# Altium footprint library CONN_TBLOCK_5P08.PcbLib: 72 footprints (part 3 of 5)
Each footprint in its own frame and in the unit in brackets; x right, y up, seen from the top. Pads: shape width x height; smd on the part's side, far side on the other; paste and mask are expansions set on the pad; w line width, h text height; cw(c..) or ccw(c..) is an arc to the next point about the centre after c.
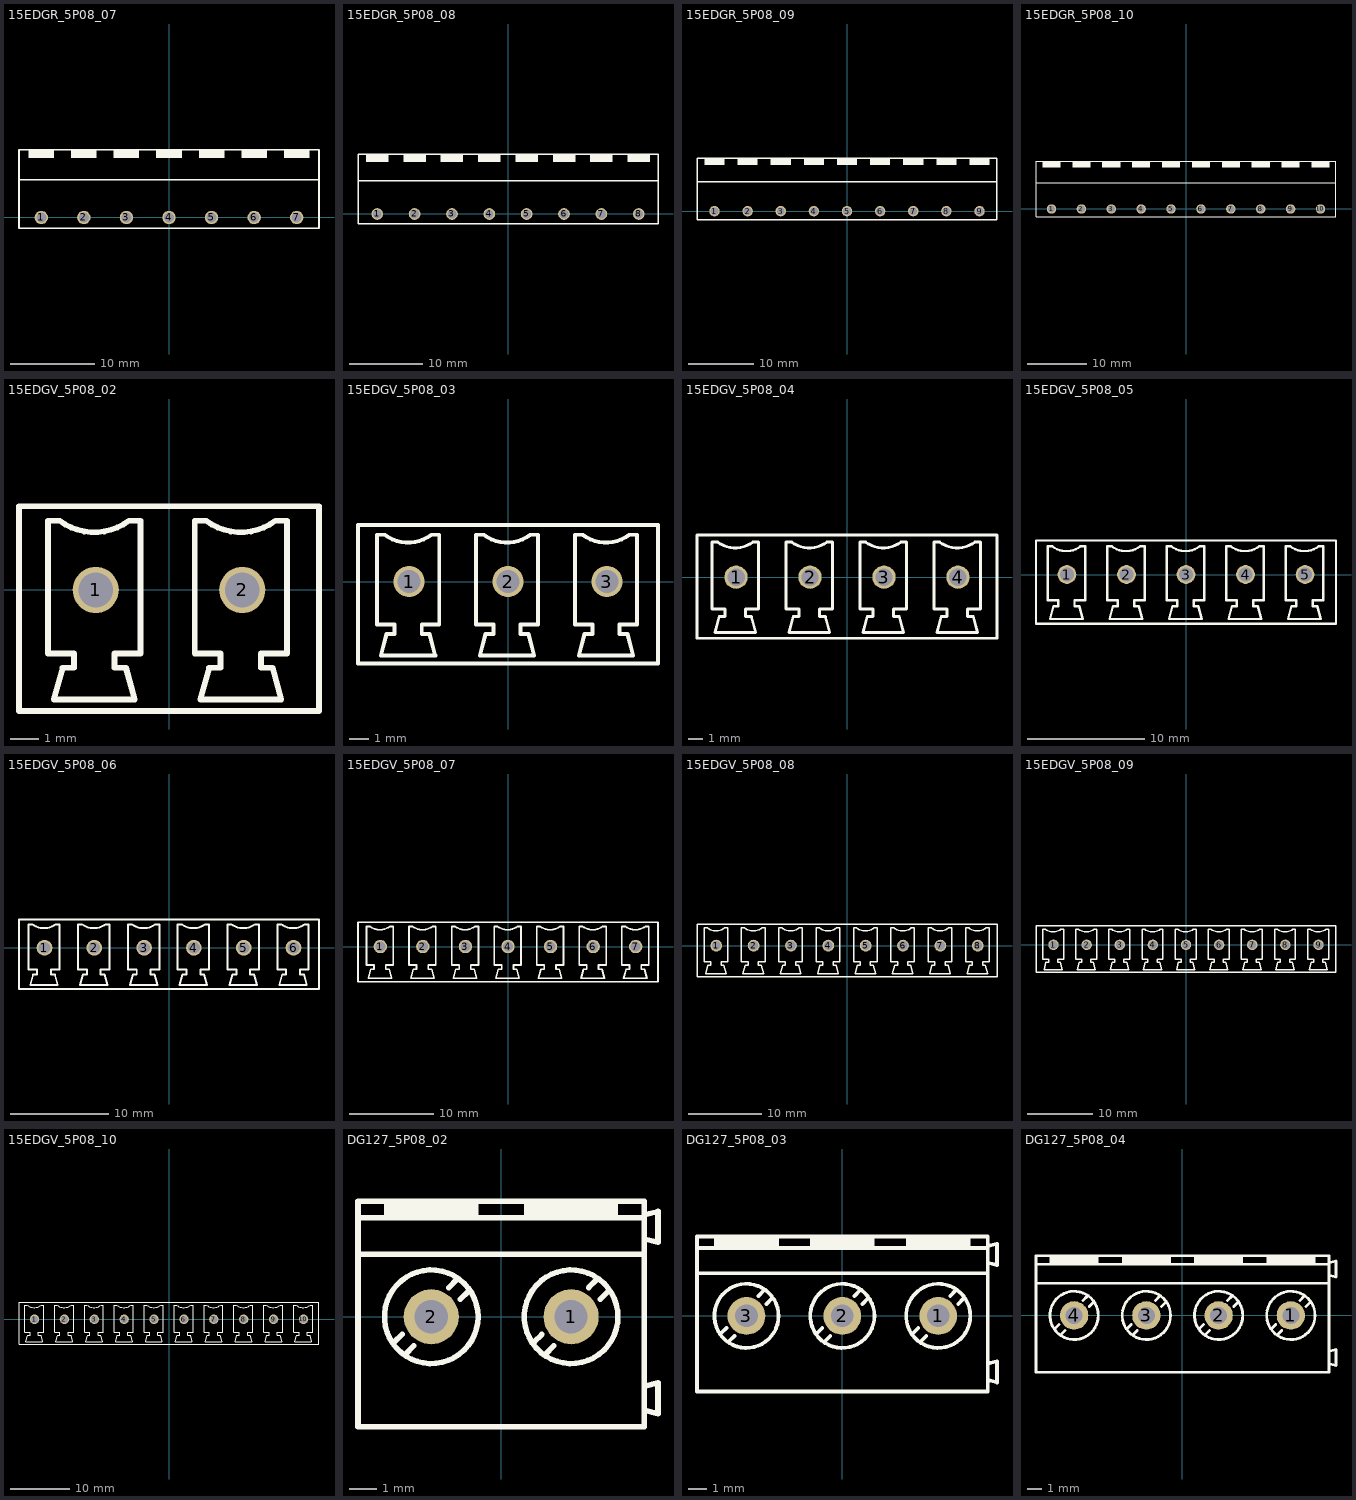
[diagram p2: the footprints below, top view; thin cyan lines are the x and y axes]

## 15EDGR_5P08_07 [mm] "Terminal Plug, pitch 5.08mm, PHOENIX MC 1,5/ x-G-5,08"
pads (7):
  round 1.6 / inner round 1.6 / far side oval 2x3 hole 1.2: 1(-15.24,0) 2(-10.16,0) 3(-5.08,0) 4(0,0) 5(5.08,0) 6(10.16,0) 7(15.24,0)
Top Overlay:
  region: -16.74,8.1 -16.74,7.1 -13.74,7.1 -13.74,8.1
  region: -11.66,8.1 -11.66,7.1 -8.66,7.1 -8.66,8.1
  region: -6.58,8.1 -6.58,7.1 -3.58,7.1 -3.58,8.1
  region: -1.5,8.1 -1.5,7.1 1.5,7.1 1.5,8.1
  region: 3.58,8.1 3.58,7.1 6.58,7.1 6.58,8.1
  region: 8.66,8.1 8.66,7.1 11.66,7.1 11.66,8.1
  region: 13.74,8.1 13.74,7.1 16.74,7.1 16.74,8.1
  lines w0.2: -17.9,4.5 17.9,4.5 ; -17.9,-1.3 -17.9,8.1 17.9,8.1 17.9,-1.3 -17.9,-1.3
3D body "MC-1-5-2-G-5-08.stp": height 7.25, standoff -3.4, extent -17.78,-1.2 -7.62,8
3D body "MC-1-5-3-G-5-08.stp": height 7.25, standoff -3.4, extent -7.62,-1.2 7.62,8
3D body "MC-1-5-2-G-5-08.stp": height 7.25, standoff -3.4, extent 7.62,-1.2 17.78,8

## 15EDGR_5P08_08 [mm] "Terminal Plug, pitch 5.08mm, PHOENIX MC 1,5/ x-G-5,08"
pads (8):
  round 1.6 / inner round 1.6 / far side oval 2x3 hole 1.2: 1(-17.78,0) 2(-12.7,0) 3(-7.62,0) 4(-2.54,0) 5(2.54,0) 6(7.62,0) 7(12.7,0) 8(17.78,0)
Top Overlay:
  region: 16.28,8.1 16.28,7.1 19.28,7.1 19.28,8.1
  region: 11.2,8.1 11.2,7.1 14.2,7.1 14.2,8.1
  region: 6.12,8.1 6.12,7.1 9.12,7.1 9.12,8.1
  region: 1.04,8.1 1.04,7.1 4.04,7.1 4.04,8.1
  region: -4.04,8.1 -4.04,7.1 -1.04,7.1 -1.04,8.1
  region: -9.12,8.1 -9.12,7.1 -6.12,7.1 -6.12,8.1
  region: -14.2,8.1 -14.2,7.1 -11.2,7.1 -11.2,8.1
  region: -19.28,8.1 -19.28,7.1 -16.28,7.1 -16.28,8.1
  lines w0.2: -20.4,4.5 20.4,4.5 ; -20.4,-1.3 20.4,-1.3 20.4,8.1 -20.4,8.1 -20.4,-1.3
3D body "MC-1-5-3-G-5-08.stp": height 7.25, standoff -3.4, extent 5.08,-1.2 20.32,8
3D body "MC-1-5-3-G-5-08.stp": height 7.25, standoff -3.4, extent -10.16,-1.2 5.08,8
3D body "MC-1-5-2-G-5-08.stp": height 7.25, standoff -3.4, extent -20.32,-1.2 -10.16,8

## 15EDGR_5P08_09 [mm] "Terminal Plug, pitch 5.08mm, PHOENIX MC 1,5/ x-G-5,08"
pads (9):
  round 1.6 / inner round 1.6 / far side oval 2x3 hole 1.2: 1(-20.32,0) 2(-15.24,0) 3(-10.16,0) 4(-5.08,0) 5(0,0) 6(5.08,0) 7(10.16,0) 8(15.24,0) 9(20.32,0)
Top Overlay:
  region: -21.82,8.1 -21.82,7.1 -18.82,7.1 -18.82,8.1
  region: -16.74,8.1 -16.74,7.1 -13.74,7.1 -13.74,8.1
  region: -11.66,8.1 -11.66,7.1 -8.66,7.1 -8.66,8.1
  region: -6.58,8.1 -6.58,7.1 -3.58,7.1 -3.58,8.1
  region: -1.5,8.1 -1.5,7.1 1.5,7.1 1.5,8.1
  region: 3.58,8.1 3.58,7.1 6.58,7.1 6.58,8.1
  region: 8.66,8.1 8.66,7.1 11.66,7.1 11.66,8.1
  region: 13.74,8.1 13.74,7.1 16.74,7.1 16.74,8.1
  region: 18.82,8.1 18.82,7.1 21.82,7.1 21.82,8.1
  lines w0.2: -23,4.5 23,4.5 ; -23,-1.3 -23,8.1 23,8.1 23,-1.3 -23,-1.3
3D body "MC-1-5-3-G-5-08.stp": height 7.25, standoff -3.4, extent -22.86,-1.2 -7.62,8
3D body "MC-1-5-3-G-5-08.stp": height 7.25, standoff -3.4, extent -7.62,-1.2 7.62,8
3D body "MC-1-5-3-G-5-08.stp": height 7.25, standoff -3.4, extent 7.62,-1.2 22.86,8

## 15EDGR_5P08_10 [mm] "Terminal Plug, pitch 5.08mm, PHOENIX MC 1,5/ x-G-5,08"
pads (10):
  round 1.6 / inner round 1.6 / far side oval 2x3 hole 1.2: 1(-22.86,0) 2(-17.78,0) 3(-12.7,0) 4(-7.62,0) 5(-2.54,0) 6(2.54,0) 7(7.62,0) 8(12.7,0) 9(17.78,0) 10(22.86,0)
Top Overlay:
  region: 21.36,8.1 21.36,7.1 24.36,7.1 24.36,8.1
  region: 16.28,8.1 16.28,7.1 19.28,7.1 19.28,8.1
  region: 11.2,8.1 11.2,7.1 14.2,7.1 14.2,8.1
  region: 6.12,8.1 6.12,7.1 9.12,7.1 9.12,8.1
  region: 1.04,8.1 1.04,7.1 4.04,7.1 4.04,8.1
  region: -4.04,8.1 -4.04,7.1 -1.04,7.1 -1.04,8.1
  region: -9.12,8.1 -9.12,7.1 -6.12,7.1 -6.12,8.1
  region: -14.2,8.1 -14.2,7.1 -11.2,7.1 -11.2,8.1
  region: -19.28,8.1 -19.28,7.1 -16.28,7.1 -16.28,8.1
  region: -24.36,8.1 -24.36,7.1 -21.36,7.1 -21.36,8.1
  lines w0.2: -25.5,4.5 25.5,4.5 ; -25.5,-1.3 25.5,-1.3 25.5,8.1 -25.5,8.1 -25.5,-1.3
3D body "MC-1-5-3-G-5-08.stp": height 7.25, standoff -3.4, extent 10.16,-1.2 25.4,8
3D body "MC-1-5-2-G-5-08.stp": height 7.25, standoff -3.4, extent 0,-1.2 10.16,8
3D body "MC-1-5-3-G-5-08.stp": height 7.25, standoff -3.4, extent -15.24,-1.2 0,8
3D body "MC-1-5-2-G-5-08.stp": height 7.25, standoff -3.4, extent -25.4,-1.2 -15.24,8

## 15EDGV_5P08_02 [mm] "Terminal Plug, pitch 5.08mm, PHOENIX MCV 1,5/ x-G-5,08"
pads (2):
  round 1.6 / inner round 1.6 / far side oval 2x3 hole 1.2: 1(-2.54,0) 2(2.54,0)
Top Overlay:
  lines w0.2: -3.79,2.4 ccw(c-2.59,4) -1.39,2.4 -0.99,2.4 -0.99,-2.2 -1.89,-2.2 -1.89,-2.7 -1.49,-2.7 -1.19,-3.8 -3.99,-3.8 -3.69,-2.7 -3.29,-2.7 -3.29,-2.2 -4.19,-2.2 -4.19,2.4 -3.79,2.4 ; -3.79,2.4 -3.79,2.4 ; 1.29,2.4 ccw(c2.49,4) 3.69,2.4 4.09,2.4 4.09,-2.2 3.19,-2.2 3.19,-2.7 3.59,-2.7 3.89,-3.8 1.09,-3.8 1.39,-2.7 1.79,-2.7 1.79,-2.2 0.89,-2.2 0.89,2.4 1.29,2.4 ; 1.29,2.4 1.29,2.4 ; -5.2,-4.2 -5.2,2.9 5.2,2.9 5.2,-4.2 -5.2,-4.2
3D body "MCV-1-5-2-G-5-08.stp": height 9.2, standoff -3.4, extent -5.06,-4.35 5.1,2.9

## 15EDGV_5P08_03 [mm] "Terminal Plug, pitch 5.08mm, PHOENIX MCV 1,5/ x-G-5,08"
pads (3):
  round 1.6 / inner round 1.6 / far side oval 2x3 hole 1.2: 1(-5.08,0) 2(0,0) 3(5.08,0)
Top Overlay:
  lines w0.2: -6.33,2.4 ccw(c-5.13,4) -3.93,2.4 -3.53,2.4 -3.53,-2.2 -4.43,-2.2 -4.43,-2.7 -4.03,-2.7 -3.73,-3.8 -6.53,-3.8 -6.23,-2.7 -5.83,-2.7 -5.83,-2.2 -6.73,-2.2 -6.73,2.4 -6.33,2.4 ; -6.33,2.4 -6.33,2.4 ; -1.25,2.4 ccw(c-0.05,4) 1.15,2.4 1.55,2.4 1.55,-2.2 0.65,-2.2 0.65,-2.7 1.05,-2.7 1.35,-3.8 -1.45,-3.8 -1.15,-2.7 -0.75,-2.7 -0.75,-2.2 -1.65,-2.2 -1.65,2.4 -1.25,2.4 ; -1.25,2.4 -1.25,2.4 ; 3.83,2.4 ccw(c5.03,4) 6.23,2.4 6.63,2.4 6.63,-2.2 5.73,-2.2 5.73,-2.7 6.13,-2.7 6.43,-3.8 3.63,-3.8 3.93,-2.7 4.33,-2.7 4.33,-2.2 3.43,-2.2 3.43,2.4 3.83,2.4 ; 3.83,2.4 3.83,2.4 ; -7.7,-4.2 7.7,-4.2 7.7,2.9 -7.7,2.9 -7.7,-4.2
3D body "MCV-1-5-3-G-5-08.stp": height 9.2, standoff -3.4, extent -7.6,-4.35 7.64,2.9

## 15EDGV_5P08_04 [mm] "Terminal Plug, pitch 5.08mm, PHOENIX MCV 1,5/ x-G-5,08"
pads (4):
  round 1.6 / inner round 1.6 / far side oval 2x3 hole 1.2: 1(-7.62,0) 2(-2.54,0) 3(2.54,0) 4(7.62,0)
Top Overlay:
  lines w0.2: -8.87,2.4 ccw(c-7.67,4) -6.47,2.4 -6.07,2.4 -6.07,-2.2 -6.97,-2.2 -6.97,-2.7 -6.57,-2.7 -6.27,-3.8 -9.07,-3.8 -8.77,-2.7 -8.37,-2.7 -8.37,-2.2 -9.27,-2.2 -9.27,2.4 -8.87,2.4 ; -8.87,2.4 -8.87,2.4 ; -3.79,2.4 ccw(c-2.59,4) -1.39,2.4 -0.99,2.4 -0.99,-2.2 -1.89,-2.2 -1.89,-2.7 -1.49,-2.7 -1.19,-3.8 -3.99,-3.8 -3.69,-2.7 -3.29,-2.7 -3.29,-2.2 -4.19,-2.2 -4.19,2.4 -3.79,2.4 ; -3.79,2.4 -3.79,2.4 ; 1.29,2.4 ccw(c2.49,4) 3.69,2.4 4.09,2.4 4.09,-2.2 3.19,-2.2 3.19,-2.7 3.59,-2.7 3.89,-3.8 1.09,-3.8 1.39,-2.7 1.79,-2.7 1.79,-2.2 0.89,-2.2 0.89,2.4 1.29,2.4 ; 1.29,2.4 1.29,2.4 ; 6.37,2.4 ccw(c7.57,4) 8.77,2.4 9.17,2.4 9.17,-2.2 8.27,-2.2 8.27,-2.7 8.67,-2.7 8.97,-3.8 6.17,-3.8 6.47,-2.7 6.87,-2.7 6.87,-2.2 5.97,-2.2 5.97,2.4 6.37,2.4 ; 6.37,2.4 6.37,2.4 ; -10.3,-4.2 -10.3,2.9 10.3,2.9 10.3,-4.2 -10.3,-4.2
3D body "MCV-1-5-2-G-5-08.stp": height 9.2, standoff -3.4, extent 0.02,-4.35 10.18,2.9
3D body "MCV-1-5-2-G-5-08.stp": height 9.2, standoff -3.4, extent -10.14,-4.35 0.02,2.9

## 15EDGV_5P08_05 [mm] "Terminal Plug, pitch 5.08mm, PHOENIX MCV 1,5/ x-G-5,08"
pads (5):
  round 1.6 / inner round 1.6 / far side oval 2x3 hole 1.2: 1(-10.16,0) 2(-5.08,0) 3(0,0) 4(5.08,0) 5(10.16,0)
Top Overlay:
  lines w0.2: -11.41,2.4 ccw(c-10.21,4) -9.01,2.4 -8.61,2.4 -8.61,-2.2 -9.51,-2.2 -9.51,-2.7 -9.11,-2.7 -8.81,-3.8 -11.61,-3.8 -11.31,-2.7 -10.91,-2.7 -10.91,-2.2 -11.81,-2.2 -11.81,2.4 -11.41,2.4 ; -11.41,2.4 -11.41,2.4 ; -6.33,2.4 ccw(c-5.13,4) -3.93,2.4 -3.53,2.4 -3.53,-2.2 -4.43,-2.2 -4.43,-2.7 -4.03,-2.7 -3.73,-3.8 -6.53,-3.8 -6.23,-2.7 -5.83,-2.7 -5.83,-2.2 -6.73,-2.2 -6.73,2.4 -6.33,2.4 ; -6.33,2.4 -6.33,2.4 ; -1.25,2.4 ccw(c-0.05,4) 1.15,2.4 1.55,2.4 1.55,-2.2 0.65,-2.2 0.65,-2.7 1.05,-2.7 1.35,-3.8 -1.45,-3.8 -1.15,-2.7 -0.75,-2.7 -0.75,-2.2 -1.65,-2.2 -1.65,2.4 -1.25,2.4 ; -1.25,2.4 -1.25,2.4 ; 3.83,2.4 ccw(c5.03,4) 6.23,2.4 6.63,2.4 6.63,-2.2 5.73,-2.2 5.73,-2.7 6.13,-2.7 6.43,-3.8 3.63,-3.8 3.93,-2.7 4.33,-2.7 4.33,-2.2 3.43,-2.2 3.43,2.4 3.83,2.4 ; 3.83,2.4 3.83,2.4 ; 8.91,2.4 ccw(c10.11,4) 11.31,2.4 11.71,2.4 11.71,-2.2 10.81,-2.2 10.81,-2.7 11.21,-2.7 11.51,-3.8 8.71,-3.8 9.01,-2.7 9.41,-2.7 9.41,-2.2 8.51,-2.2 8.51,2.4 8.91,2.4 ; 8.91,2.4 8.91,2.4 ; -12.8,-4.2 12.8,-4.2 12.8,2.9 -12.8,2.9 -12.8,-4.2
3D body "MCV-1-5-2-G-5-08.stp": height 9.2, standoff -3.4, extent -12.68,-4.35 -2.52,2.9
3D body "MCV-1-5-3-G-5-08.stp": height 9.2, standoff -3.4, extent -2.52,-4.35 12.72,2.9

## 15EDGV_5P08_06 [mm] "Terminal Plug, pitch 5.08mm, PHOENIX MCV 1,5/ x-G-5,08"
pads (6):
  round 1.6 / inner round 1.6 / far side oval 2x3 hole 1.2: 1(-12.7,0) 2(-7.62,0) 3(-2.54,0) 4(2.54,0) 5(7.62,0) 6(12.7,0)
Top Overlay:
  lines w0.2: -13.95,2.4 ccw(c-12.75,4) -11.55,2.4 -11.15,2.4 -11.15,-2.2 -12.05,-2.2 -12.05,-2.7 -11.65,-2.7 -11.35,-3.8 -14.15,-3.8 -13.85,-2.7 -13.45,-2.7 -13.45,-2.2 -14.35,-2.2 -14.35,2.4 -13.95,2.4 ; -13.95,2.4 -13.95,2.4 ; -8.87,2.4 ccw(c-7.67,4) -6.47,2.4 -6.07,2.4 -6.07,-2.2 -6.97,-2.2 -6.97,-2.7 -6.57,-2.7 -6.27,-3.8 -9.07,-3.8 -8.77,-2.7 -8.37,-2.7 -8.37,-2.2 -9.27,-2.2 -9.27,2.4 -8.87,2.4 ; -8.87,2.4 -8.87,2.4 ; -3.79,2.4 ccw(c-2.59,4) -1.39,2.4 -0.99,2.4 -0.99,-2.2 -1.89,-2.2 -1.89,-2.7 -1.49,-2.7 -1.19,-3.8 -3.99,-3.8 -3.69,-2.7 -3.29,-2.7 -3.29,-2.2 -4.19,-2.2 -4.19,2.4 -3.79,2.4 ; -3.79,2.4 -3.79,2.4 ; 1.29,2.4 ccw(c2.49,4) 3.69,2.4 4.09,2.4 4.09,-2.2 3.19,-2.2 3.19,-2.7 3.59,-2.7 3.89,-3.8 1.09,-3.8 1.39,-2.7 1.79,-2.7 1.79,-2.2 0.89,-2.2 0.89,2.4 1.29,2.4 ; 1.29,2.4 1.29,2.4 ; 6.37,2.4 ccw(c7.57,4) 8.77,2.4 9.17,2.4 9.17,-2.2 8.27,-2.2 8.27,-2.7 8.67,-2.7 8.97,-3.8 6.17,-3.8 6.47,-2.7 6.87,-2.7 6.87,-2.2 5.97,-2.2 5.97,2.4 6.37,2.4 ; 6.37,2.4 6.37,2.4 ; 11.45,2.4 ccw(c12.65,4) 13.85,2.4 14.25,2.4 14.25,-2.2 13.35,-2.2 13.35,-2.7 13.75,-2.7 14.05,-3.8 11.25,-3.8 11.55,-2.7 11.95,-2.7 11.95,-2.2 11.05,-2.2 11.05,2.4 11.45,2.4 ; 11.45,2.4 11.45,2.4 ; -15.3,-4.2 15.3,-4.2 15.3,2.9 -15.3,2.9 -15.3,-4.2
3D body "MCV-1-5-3-G-5-08.stp": height 9.2, standoff -3.4, extent -15.22,-4.35 0.02,2.9
3D body "MCV-1-5-3-G-5-08.stp": height 9.2, standoff -3.4, extent 0.02,-4.35 15.26,2.9

## 15EDGV_5P08_07 [mm] "Terminal Plug, pitch 5.08mm, PHOENIX MCV 1,5/ x-G-5,08"
pads (7):
  round 1.6 / inner round 1.6 / far side oval 2x3 hole 1.2: 1(-15.24,0) 2(-10.16,0) 3(-5.08,0) 4(0,0) 5(5.08,0) 6(10.16,0) 7(15.24,0)
Top Overlay:
  lines w0.2: -16.49,2.4 ccw(c-15.29,4) -14.09,2.4 -13.69,2.4 -13.69,-2.2 -14.59,-2.2 -14.59,-2.7 -14.19,-2.7 -13.89,-3.8 -16.69,-3.8 -16.39,-2.7 -15.99,-2.7 -15.99,-2.2 -16.89,-2.2 -16.89,2.4 -16.49,2.4 ; -16.49,2.4 -16.49,2.4 ; -11.41,2.4 ccw(c-10.21,4) -9.01,2.4 -8.61,2.4 -8.61,-2.2 -9.51,-2.2 -9.51,-2.7 -9.11,-2.7 -8.81,-3.8 -11.61,-3.8 -11.31,-2.7 -10.91,-2.7 -10.91,-2.2 -11.81,-2.2 -11.81,2.4 -11.41,2.4 ; -11.41,2.4 -11.41,2.4 ; -6.33,2.4 ccw(c-5.13,4) -3.93,2.4 -3.53,2.4 -3.53,-2.2 -4.43,-2.2 -4.43,-2.7 -4.03,-2.7 -3.73,-3.8 -6.53,-3.8 -6.23,-2.7 -5.83,-2.7 -5.83,-2.2 -6.73,-2.2 -6.73,2.4 -6.33,2.4 ; -6.33,2.4 -6.33,2.4 ; -1.25,2.4 ccw(c-0.05,4) 1.15,2.4 1.55,2.4 1.55,-2.2 0.65,-2.2 0.65,-2.7 1.05,-2.7 1.35,-3.8 -1.45,-3.8 -1.15,-2.7 -0.75,-2.7 -0.75,-2.2 -1.65,-2.2 -1.65,2.4 -1.25,2.4 ; -1.25,2.4 -1.25,2.4 ; 3.83,2.4 ccw(c5.03,4) 6.23,2.4 6.63,2.4 6.63,-2.2 5.73,-2.2 5.73,-2.7 6.13,-2.7 6.43,-3.8 3.63,-3.8 3.93,-2.7 4.33,-2.7 4.33,-2.2 3.43,-2.2 3.43,2.4 3.83,2.4 ; 3.83,2.4 3.83,2.4 ; 8.91,2.4 ccw(c10.11,4) 11.31,2.4 11.71,2.4 11.71,-2.2 10.81,-2.2 10.81,-2.7 11.21,-2.7 11.51,-3.8 8.71,-3.8 9.01,-2.7 9.41,-2.7 9.41,-2.2 8.51,-2.2 8.51,2.4 8.91,2.4 ; 8.91,2.4 8.91,2.4 ; 13.99,2.4 ccw(c15.19,4) 16.39,2.4 16.79,2.4 16.79,-2.2 15.89,-2.2 15.89,-2.7 16.29,-2.7 16.59,-3.8 13.79,-3.8 14.09,-2.7 14.49,-2.7 14.49,-2.2 13.59,-2.2 13.59,2.4 13.99,2.4 ; 13.99,2.4 13.99,2.4 ; -17.9,-4.2 -17.9,2.9 17.9,2.9 17.9,-4.2 -17.9,-4.2
3D body "MCV-1-5-2-G-5-08.stp": height 9.2, standoff -3.4, extent 7.64,-4.35 17.8,2.9
3D body "MCV-1-5-3-G-5-08.stp": height 9.2, standoff -3.4, extent -7.6,-4.35 7.64,2.9
3D body "MCV-1-5-2-G-5-08.stp": height 9.2, standoff -3.4, extent -17.76,-4.35 -7.6,2.9

## 15EDGV_5P08_08 [mm] "Terminal Plug, pitch 5.08mm, PHOENIX MCV 1,5/ x-G-5,08"
pads (8):
  round 1.6 / inner round 1.6 / far side oval 2x3 hole 1.2: 1(-17.78,0) 2(-12.7,0) 3(-7.62,0) 4(-2.54,0) 5(2.54,0) 6(7.62,0) 7(12.7,0) 8(17.78,0)
Top Overlay:
  lines w0.2: -19.03,2.4 ccw(c-17.83,4) -16.63,2.4 -16.23,2.4 -16.23,-2.2 -17.13,-2.2 -17.13,-2.7 -16.73,-2.7 -16.43,-3.8 -19.23,-3.8 -18.93,-2.7 -18.53,-2.7 -18.53,-2.2 -19.43,-2.2 -19.43,2.4 -19.03,2.4 ; -19.03,2.4 -19.03,2.4 ; -13.95,2.4 ccw(c-12.75,4) -11.55,2.4 -11.15,2.4 -11.15,-2.2 -12.05,-2.2 -12.05,-2.7 -11.65,-2.7 -11.35,-3.8 -14.15,-3.8 -13.85,-2.7 -13.45,-2.7 -13.45,-2.2 -14.35,-2.2 -14.35,2.4 -13.95,2.4 ; -13.95,2.4 -13.95,2.4 ; -8.87,2.4 ccw(c-7.67,4) -6.47,2.4 -6.07,2.4 -6.07,-2.2 -6.97,-2.2 -6.97,-2.7 -6.57,-2.7 -6.27,-3.8 -9.07,-3.8 -8.77,-2.7 -8.37,-2.7 -8.37,-2.2 -9.27,-2.2 -9.27,2.4 -8.87,2.4 ; -8.87,2.4 -8.87,2.4 ; -3.79,2.4 ccw(c-2.59,4) -1.39,2.4 -0.99,2.4 -0.99,-2.2 -1.89,-2.2 -1.89,-2.7 -1.49,-2.7 -1.19,-3.8 -3.99,-3.8 -3.69,-2.7 -3.29,-2.7 -3.29,-2.2 -4.19,-2.2 -4.19,2.4 -3.79,2.4 ; -3.79,2.4 -3.79,2.4 ; 1.29,2.4 ccw(c2.49,4) 3.69,2.4 4.09,2.4 4.09,-2.2 3.19,-2.2 3.19,-2.7 3.59,-2.7 3.89,-3.8 1.09,-3.8 1.39,-2.7 1.79,-2.7 1.79,-2.2 0.89,-2.2 0.89,2.4 1.29,2.4 ; 1.29,2.4 1.29,2.4 ; 6.37,2.4 ccw(c7.57,4) 8.77,2.4 9.17,2.4 9.17,-2.2 8.27,-2.2 8.27,-2.7 8.67,-2.7 8.97,-3.8 6.17,-3.8 6.47,-2.7 6.87,-2.7 6.87,-2.2 5.97,-2.2 5.97,2.4 6.37,2.4 ; 6.37,2.4 6.37,2.4 ; 11.45,2.4 ccw(c12.65,4) 13.85,2.4 14.25,2.4 14.25,-2.2 13.35,-2.2 13.35,-2.7 13.75,-2.7 14.05,-3.8 11.25,-3.8 11.55,-2.7 11.95,-2.7 11.95,-2.2 11.05,-2.2 11.05,2.4 11.45,2.4 ; 11.45,2.4 11.45,2.4 ; 16.53,2.4 ccw(c17.73,4) 18.93,2.4 19.33,2.4 19.33,-2.2 18.43,-2.2 18.43,-2.7 18.83,-2.7 19.13,-3.8 16.33,-3.8 16.63,-2.7 17.03,-2.7 17.03,-2.2 16.13,-2.2 16.13,2.4 16.53,2.4 ; 16.53,2.4 16.53,2.4 ; -20.4,-4.2 20.4,-4.2 20.4,2.9 -20.4,2.9 -20.4,-4.2
3D body "MCV-1-5-2-G-5-08.stp": height 9.2, standoff -3.4, extent -20.3,-4.35 -10.14,2.9
3D body "MCV-1-5-3-G-5-08.stp": height 9.2, standoff -3.4, extent -10.14,-4.35 5.1,2.9
3D body "MCV-1-5-3-G-5-08.stp": height 9.2, standoff -3.4, extent 5.1,-4.35 20.34,2.9

## 15EDGV_5P08_09 [mm] "Terminal Plug, pitch 5.08mm, PHOENIX MCV 1,5/ x-G-5,08"
pads (9):
  round 1.6 / inner round 1.6 / far side oval 2x3 hole 1.2: 1(-20.32,0) 2(-15.24,0) 3(-10.16,0) 4(-5.08,0) 5(0,0) 6(5.08,0) 7(10.16,0) 8(15.24,0) 9(20.32,0)
Top Overlay:
  lines w0.2: -21.57,2.4 ccw(c-20.37,4) -19.17,2.4 -18.77,2.4 -18.77,-2.2 -19.67,-2.2 -19.67,-2.7 -19.27,-2.7 -18.97,-3.8 -21.77,-3.8 -21.47,-2.7 -21.07,-2.7 -21.07,-2.2 -21.97,-2.2 -21.97,2.4 -21.57,2.4 ; -21.57,2.4 -21.57,2.4 ; -16.49,2.4 ccw(c-15.29,4) -14.09,2.4 -13.69,2.4 -13.69,-2.2 -14.59,-2.2 -14.59,-2.7 -14.19,-2.7 -13.89,-3.8 -16.69,-3.8 -16.39,-2.7 -15.99,-2.7 -15.99,-2.2 -16.89,-2.2 -16.89,2.4 -16.49,2.4 ; -16.49,2.4 -16.49,2.4 ; -11.41,2.4 ccw(c-10.21,4) -9.01,2.4 -8.61,2.4 -8.61,-2.2 -9.51,-2.2 -9.51,-2.7 -9.11,-2.7 -8.81,-3.8 -11.61,-3.8 -11.31,-2.7 -10.91,-2.7 -10.91,-2.2 -11.81,-2.2 -11.81,2.4 -11.41,2.4 ; -11.41,2.4 -11.41,2.4 ; -6.33,2.4 ccw(c-5.13,4) -3.93,2.4 -3.53,2.4 -3.53,-2.2 -4.43,-2.2 -4.43,-2.7 -4.03,-2.7 -3.73,-3.8 -6.53,-3.8 -6.23,-2.7 -5.83,-2.7 -5.83,-2.2 -6.73,-2.2 -6.73,2.4 -6.33,2.4 ; -6.33,2.4 -6.33,2.4 ; -1.25,2.4 ccw(c-0.05,4) 1.15,2.4 1.55,2.4 1.55,-2.2 0.65,-2.2 0.65,-2.7 1.05,-2.7 1.35,-3.8 -1.45,-3.8 -1.15,-2.7 -0.75,-2.7 -0.75,-2.2 -1.65,-2.2 -1.65,2.4 -1.25,2.4 ; -1.25,2.4 -1.25,2.4 ; 3.83,2.4 ccw(c5.03,4) 6.23,2.4 6.63,2.4 6.63,-2.2 5.73,-2.2 5.73,-2.7 6.13,-2.7 6.43,-3.8 3.63,-3.8 3.93,-2.7 4.33,-2.7 4.33,-2.2 3.43,-2.2 3.43,2.4 3.83,2.4 ; 3.83,2.4 3.83,2.4 ; 8.91,2.4 ccw(c10.11,4) 11.31,2.4 11.71,2.4 11.71,-2.2 10.81,-2.2 10.81,-2.7 11.21,-2.7 11.51,-3.8 8.71,-3.8 9.01,-2.7 9.41,-2.7 9.41,-2.2 8.51,-2.2 8.51,2.4 8.91,2.4 ; 8.91,2.4 8.91,2.4 ; 13.99,2.4 ccw(c15.19,4) 16.39,2.4 16.79,2.4 16.79,-2.2 15.89,-2.2 15.89,-2.7 16.29,-2.7 16.59,-3.8 13.79,-3.8 14.09,-2.7 14.49,-2.7 14.49,-2.2 13.59,-2.2 13.59,2.4 13.99,2.4 ; 13.99,2.4 13.99,2.4 ; 19.07,2.4 ccw(c20.27,4) 21.47,2.4 21.87,2.4 21.87,-2.2 20.97,-2.2 20.97,-2.7 21.37,-2.7 21.67,-3.8 18.87,-3.8 19.17,-2.7 19.57,-2.7 19.57,-2.2 18.67,-2.2 18.67,2.4 19.07,2.4 ; 19.07,2.4 19.07,2.4 ; -23,-4.2 -23,2.9 23,2.9 23,-4.2 -23,-4.2
3D body "MCV-1-5-3-G-5-08.stp": height 9.2, standoff -3.4, extent 7.64,-4.35 22.88,2.9
3D body "MCV-1-5-3-G-5-08.stp": height 9.2, standoff -3.4, extent -7.6,-4.35 7.64,2.9
3D body "MCV-1-5-3-G-5-08.stp": height 9.2, standoff -3.4, extent -22.84,-4.35 -7.6,2.9

## 15EDGV_5P08_10 [mm] "Terminal Plug, pitch 5.08mm, PHOENIX MCV 1,5/ x-G-5,08"
pads (10):
  round 1.6 / inner round 1.6 / far side oval 2x3 hole 1.2: 1(-22.86,0) 2(-17.78,0) 3(-12.7,0) 4(-7.62,0) 5(-2.54,0) 6(2.54,0) 7(7.62,0) 8(12.7,0) 9(17.78,0) 10(22.86,0)
Top Overlay:
  drawing of 154 lines, arcs and shapes, not listed
3D body "MCV-1-5-3-G-5-08.stp": height 9.2, standoff -3.4, extent 10.18,-4.35 25.42,2.9
3D body "MCV-1-5-2-G-5-08.stp": height 9.2, standoff -3.4, extent 0.02,-4.35 10.18,2.9
3D body "MCV-1-5-3-G-5-08.stp": height 9.2, standoff -3.4, extent -15.22,-4.35 0.02,2.9
3D body "MCV-1-5-2-G-5-08.stp": height 9.2, standoff -3.4, extent -25.38,-4.35 -15.22,2.9

## DG127_5P08_02 [mm] "Terminal Block Screw, Pitch 5mm, H10mm, DG127-5.08-xxP"
height 10
pads (2):
  round 2 / inner round 2 / far side oval 2.4x3 hole 1.2: 1(2.54,0) 2(-2.54,0)
Top Overlay:
  circle w0.2: c-2.54,0 r1.7
  circle w0.2: c2.54,0 r1.7
  region: -4.24,3.6 -4.24,4.2 -0.84,4.2 -0.84,3.6
  region: 0.84,3.6 0.84,4.2 4.24,4.2 4.24,3.6
  lines w0.2: -5.2,2.262 5.2,2.262 ; -5.2,3.6 5.2,3.6 ; -3.884,-0.919 -3.601,-0.636 ; -3.459,-1.344 -3.176,-1.061 ; -1.904,1.061 -1.621,1.343 ; -1.479,0.636 -1.197,0.919 ; 1.196,-0.919 1.479,-0.636 ; 1.621,-1.344 1.904,-1.061 ; 3.176,1.061 3.459,1.343 ; 3.601,0.636 3.883,0.919 ; 5.2,-3.4 5.694,-3.524 5.694,-2.4 5.2,-2.524 ; 5.2,2.824 5.694,2.7 5.694,3.824 5.2,3.7 ; -5.2,-4 5.2,-4 5.2,4.2 -5.2,4.2 -5.2,-4
3D body "DG127-5.08-02P.stp": height 10, standoff -3.9, extent -5.085,-3.975 5.575,4.125

## DG127_5P08_03 [mm] "Terminal Block Screw, Pitch 5mm, H10mm, DG127-5.08-xxP"
height 10
pads (3):
  round 2 / inner round 2 / far side oval 2.4x3 hole 1.2: 1(5.08,0) 2(0,0) 3(-5.08,0)
Top Overlay:
  circle w0.2: c-5.08,0 r1.7
  circle w0.2: c0,0 r1.7
  circle w0.2: c5.08,0 r1.7
  region: -6.78,3.6 -6.78,4.2 -3.38,4.2 -3.38,3.6
  region: -1.7,3.6 -1.7,4.2 1.7,4.2 1.7,3.6
  region: 3.38,3.6 3.38,4.2 6.78,4.2 6.78,3.6
  lines w0.2: -7.7,2.262 7.7,2.262 ; -7.7,3.6 7.7,3.6 ; -6.424,-0.919 -6.141,-0.636 ; -5.999,-1.344 -5.716,-1.061 ; -4.444,1.061 -4.161,1.343 ; -4.019,0.636 -3.737,0.919 ; -1.344,-0.919 -1.061,-0.636 ; -0.919,-1.344 -0.636,-1.061 ; 0.636,1.061 0.919,1.343 ; 1.061,0.636 1.343,0.919 ; 3.736,-0.919 4.019,-0.636 ; 4.161,-1.344 4.444,-1.061 ; 5.716,1.061 5.999,1.343 ; 6.141,0.636 6.423,0.919 ; 7.7,-3.4 8.194,-3.524 8.194,-2.4 7.7,-2.524 ; 7.7,2.824 8.194,2.7 8.194,3.824 7.7,3.7 ; -7.7,-4 -7.7,4.2 7.7,4.2 7.7,-4 -7.7,-4
3D body "DG127-5.08-03P.stp": height 10, standoff -3.9, extent -7.625,-3.975 8.115,4.125

## DG127_5P08_04 [mm] "Terminal Block Screw, Pitch 5mm, H10mm, DG127-5.08-xxP"
height 10
pads (4):
  round 2 / inner round 2 / far side oval 2.4x3 hole 1.2: 1(7.62,0) 2(2.54,0) 3(-2.54,0) 4(-7.62,0)
Top Overlay:
  circle w0.2: c-7.62,0 r1.7
  circle w0.2: c-2.54,0 r1.7
  circle w0.2: c2.54,0 r1.7
  circle w0.2: c7.62,0 r1.7
  region: -9.32,3.6 -9.32,4.2 -5.92,4.2 -5.92,3.6
  region: -4.24,3.6 -4.24,4.2 -0.84,4.2 -0.84,3.6
  region: 0.84,3.6 0.84,4.2 4.24,4.2 4.24,3.6
  region: 5.92,3.6 5.92,4.2 9.32,4.2 9.32,3.6
  lines w0.2: -10.3,2.262 10.3,2.262 ; -10.3,3.6 10.3,3.6 ; -8.964,-0.919 -8.681,-0.636 ; -8.539,-1.344 -8.256,-1.061 ; -6.984,1.061 -6.701,1.343 ; -6.559,0.636 -6.277,0.919 ; -3.884,-0.919 -3.601,-0.636 ; -3.459,-1.344 -3.176,-1.061 ; -1.904,1.061 -1.621,1.343 ; -1.479,0.636 -1.197,0.919 ; 1.196,-0.919 1.479,-0.636 ; 1.621,-1.344 1.904,-1.061 ; 3.176,1.061 3.459,1.343 ; 3.601,0.636 3.883,0.919 ; 6.276,-0.919 6.559,-0.636 ; 6.701,-1.344 6.984,-1.061 ; 8.256,1.061 8.539,1.343 ; 8.681,0.636 8.963,0.919 ; 10.3,-3.4 10.794,-3.524 10.794,-2.4 10.3,-2.524 ; 10.3,2.824 10.794,2.7 10.794,3.824 10.3,3.7 ; -10.3,-4 -10.3,4.2 10.3,4.2 10.3,-4 -10.3,-4
3D body "DG127-5.08-04P.stp": height 10, standoff -3.9, extent -10.165,-3.975 10.655,4.125